# Altium schematic symbol library 13.1 - 模块.SchLib: 14 symbols
Pins are listed as number, name and electrical type; pins without a type are passive.

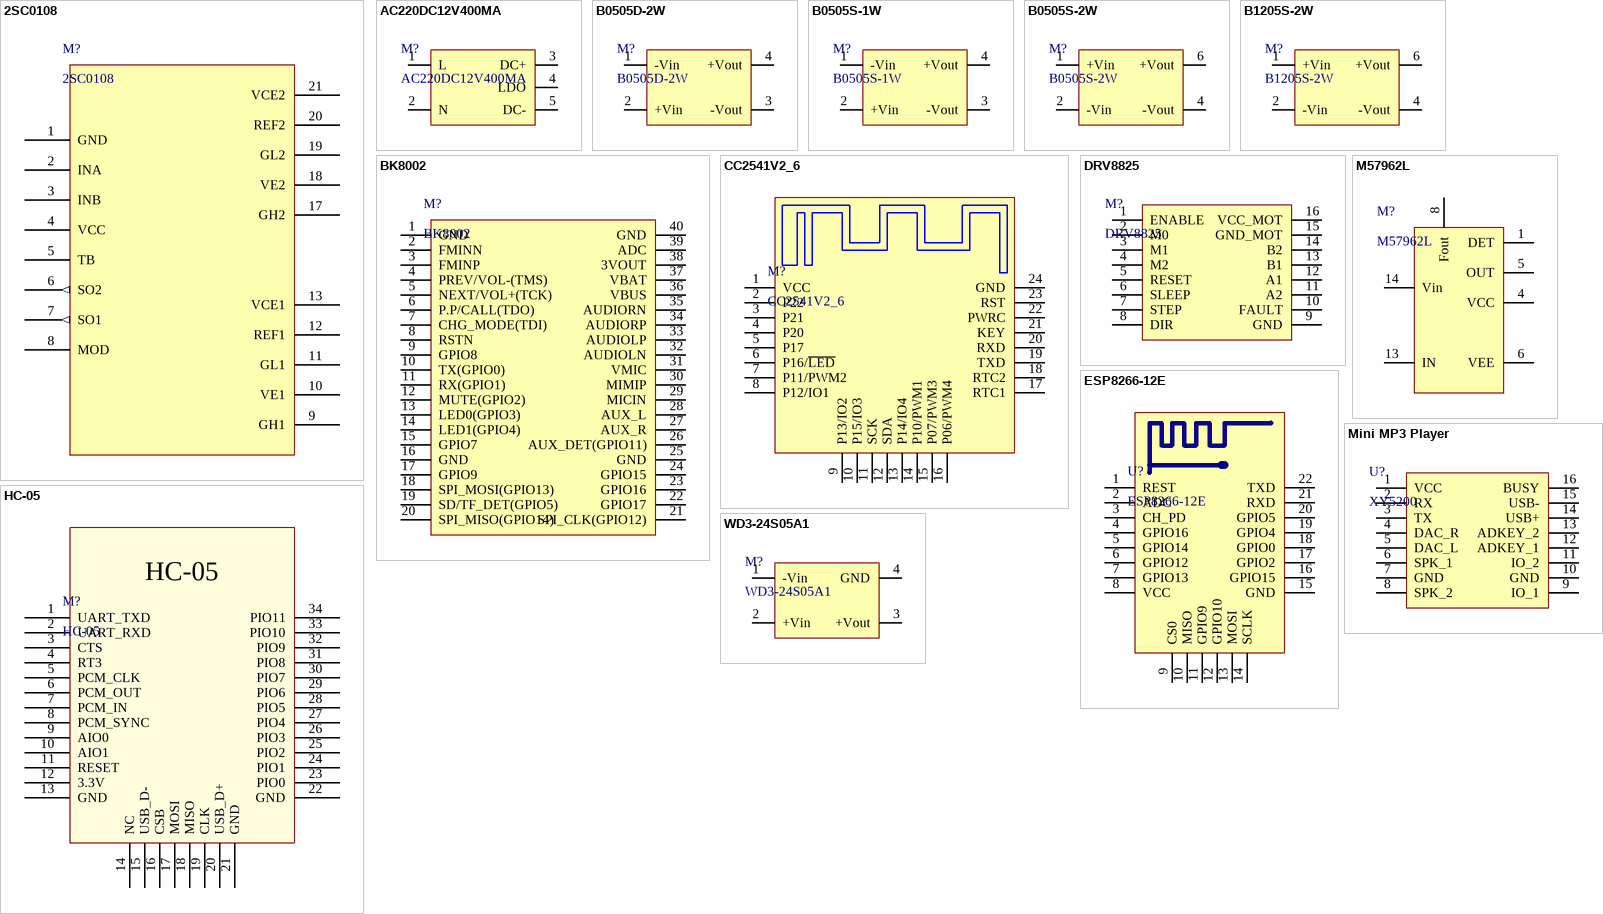
[diagram p0: symbols 2SC0108 to WD3-24S05A1]

## 2SC0108
designator M?
IGBT驱动模块; 版权归属: 源创客; BOM名称: IGBT驱动模块; 学习资源: www.ooocke.com
footprint 2SC0108 (45mm*34.29mm*16mm(长*宽*高))
pins: 1 GND, 2 INA, 3 INB, 4 VCC, 5 TB, 6 SO2 (out), 7 SO1 (out), 8 MOD, 9 GH1, 10 VE1, 11 GL1, 12 REF1, 13 VCE1, 17 GH2, 18 VE2, 19 GL2, 20 REF2, 21 VCE2

## AC220DC12V400MA
designator M?
AC-DC模块; 版权归属: 源创客; BOM名称: AC-DC模块; 学习资源: www.ooocke.com
footprint ADDC302018 (长宽高30*20*18（mm）)
pins: 1 L, 2 N, 3 DC+, 4 LDO, 5 DC-

## B0505D-2W
designator M?
DC-DC模块; 版权归属: 源创客; BOM名称: DC-DC模块; 学习资源: www.ooocke.com
footprint B0505D-2W (19.5mm*9.8mm*7.7mm(长*宽*高）)
pins: 1 -Vin, 2 +Vin, 3 -Vout, 4 +Vout

## B0505S-1W
designator M?
DC-DC模块; 版权归属: 源创客; BOM名称: DC-DC模块; 学习资源: www.ooocke.com
footprint B0505S-1W (11.68mm*6mm*9.65mm(长*宽*高）)
pins: 1 -Vin, 2 +Vin, 3 -Vout, 4 +Vout

## B0505S-2W
designator M?
DC-DC模块; 版权归属: 源创客; BOM名称: DC-DC模块; 学习资源: www.ooocke.com
footprint B0505S-2W (Footprint not found)
pins: 1 +Vin, 2 -Vin, 4 -Vout, 6 +Vout

## B1205S-2W
designator M?
DC-DC模块; 版权归属: 源创客; BOM名称: DC-DC模块; 学习资源: www.ooocke.com
footprint B0505S-2W (Footprint not found)
pins: 1 +Vin, 2 -Vin, 4 -Vout, 6 +Vout

## BK8002
designator M?
蓝牙模块，带FM; BOM名称: 蓝牙立体声模块; 版权归属: 源创客; 学习资源: www.ooocke.com
footprint BK8002
pins: 1 GND, 2 FMINN, 3 FMINP, 4 PREV/VOL-(TMS), 5 NEXT/VOL+(TCK), 6 P.P/CALL(TDO), 7 CHG_MODE(TDI), 8 RSTN, 9 GPIO8, 10 TX(GPIO0), 11 RX(GPIO1), 12 MUTE(GPIO2), 13 LED0(GPIO3), 14 LED1(GPIO4), 15 GPIO7, 16 GND, 17 GPIO9, 18 SPI_MOSI(GPIO13), 19 SD/TF_DET(GPIO5), 20 SPI_MISO(GPIO14), 21 SPI_CLK(GPIO12), 22 GPIO17, 23 GPIO16, 24 GPIO15, 25 GND, 26 AUX_DET(GPIO11), 27 AUX_R, 28 AUX_L, 29 MICIN, 30 MIMIP, 31 VMIC, 32 AUDIOLN, 33 AUDIOLP, 34 AUDIORP, 35 AUDIORN, 36 VBUS, 37 VBAT, 38 3VOUT, 39 ADC, 40 GND

## CC2541V2_6
designator M?
蓝牙4.0透传模块; 版权归属: 源创客; BOM名称: 蓝牙4.0透传模块; 学习资源: www.ooocke.com
footprint CC2541V2_6 (蓝牙4.0透传模块)
pins: 1 VCC, 2 P22, 3 P21, 4 P20, 5 P17, 6 P16/~{LED}, 7 P11/PWM2, 8 P12/IO1, 9 P13/IO2, 10 P15/IO3, 11 SCK, 12 SDA, 13 P14/IO4, 14 P10/PWM1, 15 P07/PWM3, 16 P06/PWM4, 17 RTC1, 18 RTC2, 19 TXD, 20 RXD, 21 KEY, 22 PWRC, 23 RST, 24 GND

## DRV8825
designator M?
步进电机驱动模块; 版权归属: 源创客; BOM名称: 步进电机驱动模块; 学习资源: www.ooocke.com
footprint DRV8825 (长:20.5mm，宽:15.5mm，高:5mm)
pins: 1 ENABLE, 2 M0, 3 M1, 4 M2, 5 RESET, 6 SLEEP, 7 STEP, 8 DIR, 9 GND, 10 FAULT, 11 A2, 12 A1, 13 B1, 14 B2, 15 GND_MOT, 16 VCC_MOT

## ESP8266-12E
designator U?
串口 WIFI模块，ESP-12E; BOM名称: WIFI模块; 版权归属: 源创客; 学习资源: www.ooocke.com
footprint ESP_12E (ESP-12 Wi-Fi Module by AI-Thinker)
pins: 1 REST, 2 ADC, 3 CH_PD, 4 GPIO16, 5 GPIO14, 6 GPIO12, 7 GPIO13, 8 VCC, 9 CS0, 10 MISO, 11 GPIO9, 12 GPIO10, 13 MOSI, 14 SCLK, 15 GND, 16 GPIO15, 17 GPIO2, 18 GPIO0, 19 GPIO4, 20 GPIO5, 21 RXD, 22 TXD

## HC-05
designator M?
串口蓝牙模块; 版权归属: 源创客; BOM名称: 串口蓝牙模块; 学习资源: www.ooocke.com
footprint HC-05 (串口蓝牙模块)
pins: 1 UART_TXD, 2 UART_RXD, 3 CTS, 4 RT3, 5 PCM_CLK, 6 PCM_OUT, 7 PCM_IN, 8 PCM_SYNC, 9 AIO0, 10 AIO1, 11 RESET, 12 3.3V, 13 GND, 14 NC, 15 USB_D-, 16 CSB, 17 MOSI, 18 MISO, 19 CLK, 20 USB_D+, 21 GND, 22 GND, 23 PIO0, 24 PIO1, 25 PIO2, 26 PIO3, 27 PIO4, 28 PIO5, 29 PIO6, 30 PIO7, 31 PIO8, 32 PIO9, 33 PIO10, 34 PIO11

## M57962L
designator M?
IGBT驱动; 版权归属: 源创客; BOM名称: IGBT驱动; 学习资源: www.ooocke.com
footprint M57962L (IGBT驱动模块)
pins: 1 DET, 4 VCC, 5 OUT, 6 VEE, 8 Fout, 13 IN, 14 Vin

## Mini MP3 Player
designator U?, comment XY5200
MP3模块; 版权归属: 源创客; BOM名称: MP3模块; 学习资源: www.ooocke.com
footprint DFPlayer Mini (长：21mm ， 宽： 21mm，高：6mm)
pins: 1 VCC, 2 RX, 3 TX, 4 DAC_R, 5 DAC_L, 6 SPK_1, 7 GND, 8 SPK_2, 9 IO_1, 10 GND, 11 IO_2, 12 ADKEY_1, 13 ADKEY_2, 14 USB+, 15 USB-, 16 BUSY

## WD3-24S05A1
designator M?
24V转5V模块; 版权归属: 源创客; BOM名称: 24V转5V模块; 学习资源: www.ooocke.com
footprint WD-24S05A1 (3W-24V转5V模块)
pins: 1 -Vin, 2 +Vin, 3 +Vout, 4 GND